# EAGLE library part 1.3"OLED (library jason_eagle6)
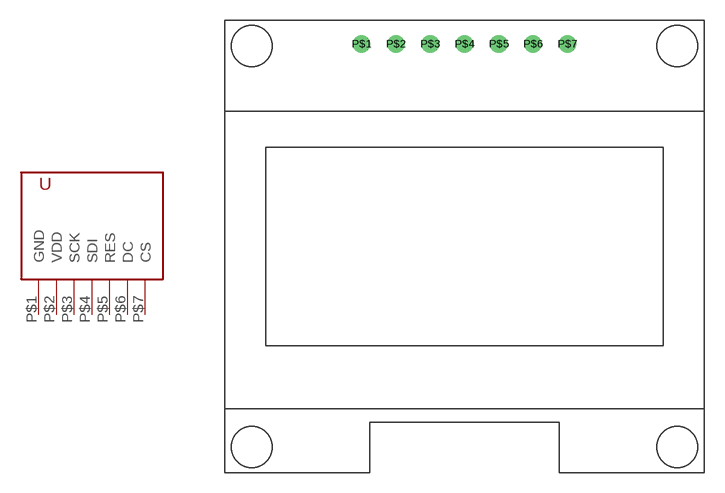
[diagram p62: symbol with the pads of OLED_1.3"; footprint OLED_1.3"]

Designator prefix -

## 1.3"OLED  [OLED_1.3"]
P$1  GND
P$2  VDD
P$3  SCK
P$4  SDI
P$5  RES
P$6  DC
P$7  CS

## Footprint OLED_1.3" (pad centres in mm)
drill 0.8: P$1 -7.62,15; P$2 -5.08,15; P$3 -2.54,15; P$4 0,15; P$5 2.54,15; P$6 5.08,15; P$7 7.62,15